# Altium footprint library PcbLib1.PcbLib: 27 footprints (part 2 of 2)
Each footprint in its own frame and in the unit in brackets; x right, y up, seen from the top. Pads: shape width x height; smd on the part's side, far side on the other; paste and mask are expansions set on the pad; w line width, h text height; cw(c..) or ccw(c..) is an arc to the next point about the centre after c.
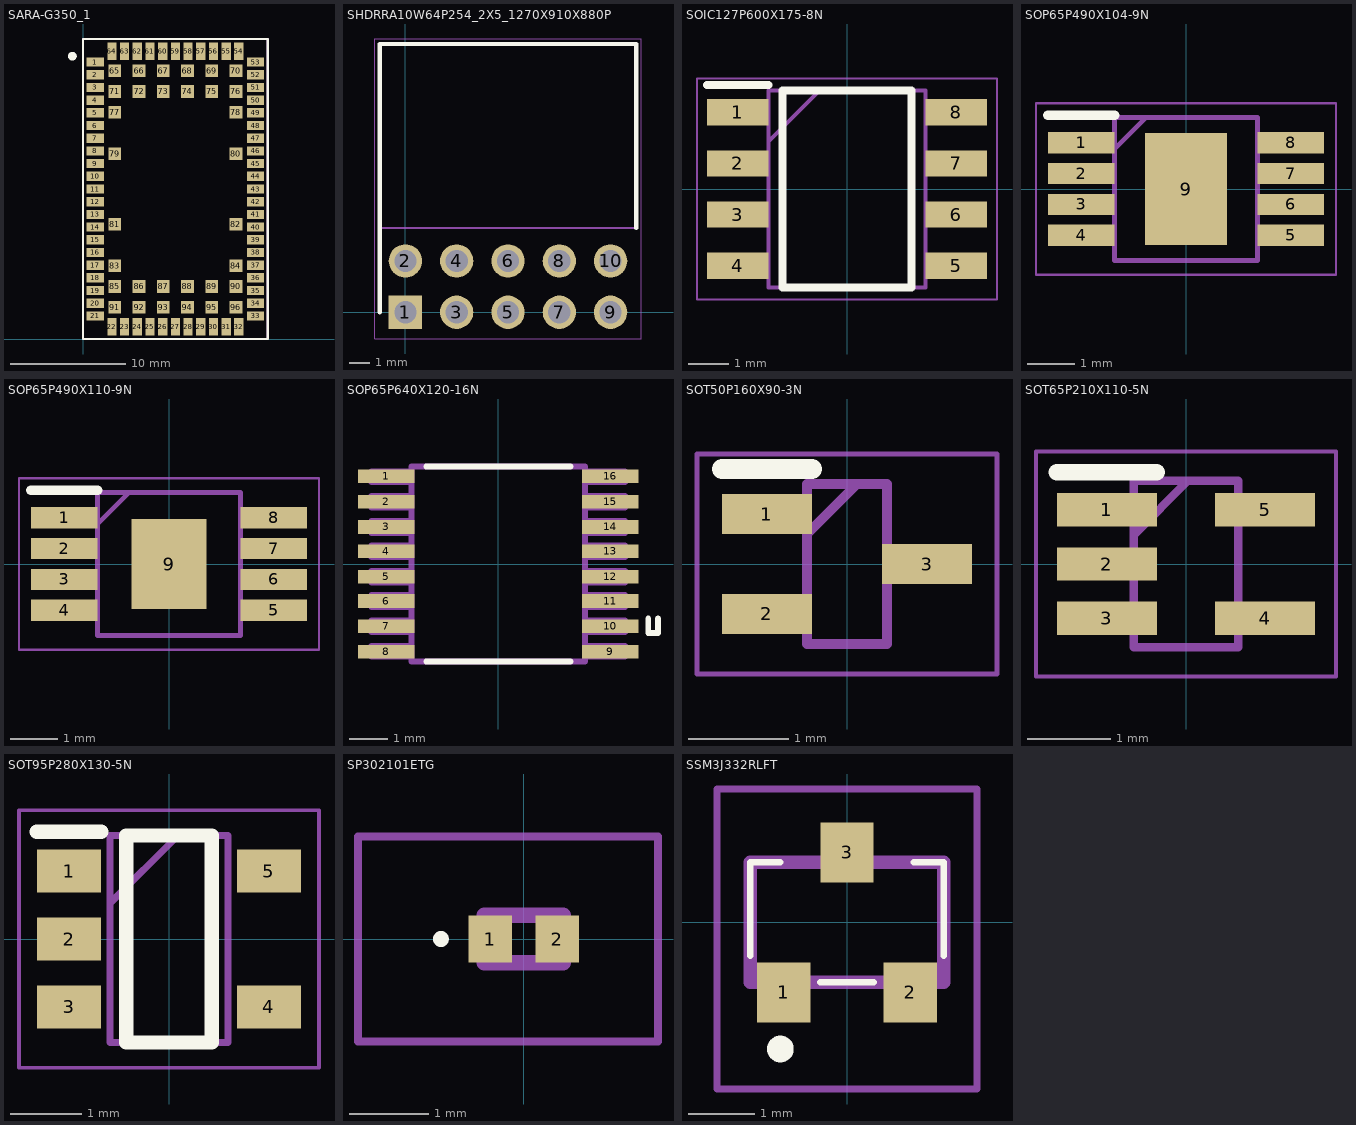
[diagram p1: the footprints below, top view; thin cyan lines are the x and y axes]

## SARA-G350_1 [mm]
pads (96):
  rect 1.5x0.8 smd: 1(1.05,24) 2(1.05,22.9) 3(1.05,21.8) 4(1.05,20.7) 5(1.05,19.6) 6(1.05,18.5) 7(1.05,17.4) 8(1.05,16.3) 9(1.05,15.2) 10(1.05,14.1) 11(1.05,13) 12(1.05,11.9) 13(1.05,10.8) 14(1.05,9.7) 15(1.05,8.6) 16(1.05,7.5) 17(1.05,6.4) 18(1.05,5.3) 19(1.05,4.2) 20(1.05,3.1) 21(1.05,2) 33(14.95,2) 34(14.95,3.1) 35(14.95,4.2) 36(14.95,5.3) 37(14.95,6.4) 38(14.95,7.5) 39(14.95,8.6) 40(14.95,9.7) 41(14.95,10.8) 42(14.95,11.9) 43(14.95,13) 44(14.95,14.1) 45(14.95,15.2) 46(14.95,16.3) 47(14.95,17.4) 48(14.95,18.5) 49(14.95,19.6) 50(14.95,20.7) 51(14.95,21.8) 52(14.95,22.9) 53(14.95,24)
  rect 0.8x1.5 smd: 22(2.5,1.05) 23(3.6,1.05) 24(4.7,1.05) 25(5.8,1.05) 26(6.9,1.05) 27(8,1.05) 28(9.1,1.05) 29(10.2,1.05) 30(11.3,1.05) 31(12.4,1.05) 32(13.5,1.05) 54(13.5,24.95) 55(12.4,24.95) 56(11.3,24.95) 57(10.2,24.95) 58(9.1,24.95) 59(8,24.95) 60(6.9,24.95) 61(5.8,24.95) 62(4.7,24.95) 63(3.6,24.95) 64(2.5,24.95)
  rect 1.1x1.1 smd: 65(2.75,23.25) 66(4.85,23.25) 67(6.95,23.25) 68(9.05,23.25) 69(11.15,23.25) 70(13.25,23.25) 71(2.75,21.45) 72(4.85,21.45) 73(6.95,21.45) 74(9.05,21.45) 75(11.15,21.45) 76(13.25,21.45) 77(2.75,19.65) 78(13.25,19.65) 79(2.75,16.05) 80(13.25,16.05) 81(2.75,9.95) 82(13.25,9.95) 83(2.75,6.35) 84(13.25,6.35) 85(2.75,4.55) 86(4.85,4.55) 87(6.95,4.55) 88(9.05,4.55) 89(11.15,4.55) 90(13.25,4.55) 91(2.75,2.75) 92(4.85,2.75) 93(6.95,2.75) 94(9.05,2.75) 95(11.15,2.75) 96(13.25,2.75)
Top Overlay:
  circle w0.4: c-0.925,24.514 r0.178
  lines w0.2: 0,0 0,26 16,26 16,0 0,0
Mechanical 13:
  lines w0.2: 0,0 16,0 16,26 0,26 0,0

## SHDRRA10W64P254_2X5_1270X910X880P [mm]
pads (10):
  rect 1.65x1.65 hole 1.1: 1(0,0)
  round 1.65 hole 1.1: 2(0,2.54) 3(2.54,0) 4(2.54,2.54) 5(5.08,0) 6(5.08,2.54) 7(7.62,0) 8(7.62,2.54) 9(10.16,0) 10(10.16,2.54)
Top Overlay:
  lines w0.2: -1.27,0 -1.27,13.28 11.43,13.28 11.43,4.18
Mechanical 13:
  lines w0.1: -1.27,4.18 11.43,4.18 11.43,13.28 -1.27,13.28 -1.27,4.18
Mechanical 15:
  lines w0.05: -1.52,-1.325 -1.52,13.53 11.68,13.53 11.68,-1.325 -1.52,-1.325
3D body "SBH11-PBPC-D05-RA-BK.stp": height 8.8, standoff -3, extent -1.27,-0.32 11.43,13.28

## SOIC127P600X175-8N [mm]
pads (8):
  rect 1.525x0.65 smd: 1(-2.712,1.905) 2(-2.712,0.635) 3(-2.712,-0.635) 4(-2.712,-1.905) 5(2.712,-1.905) 6(2.712,-0.635) 7(2.712,0.635) 8(2.712,1.905)
Top Overlay:
  lines w0.2: -3.475,2.58 -1.95,2.58 ; -1.6,-2.45 -1.6,2.45 1.6,2.45 1.6,-2.45 -1.6,-2.45
Mechanical 13:
  lines w0.1: -1.95,1.18 -0.68,2.45 ; -1.95,-2.45 -1.95,2.45 1.95,2.45 1.95,-2.45 -1.95,-2.45
Mechanical 15:
  lines w0.05: -3.725,-2.75 -3.725,2.75 3.725,2.75 3.725,-2.75 -3.725,-2.75
3D body "MAX3488AEGSA+.stp": height 1.75, standoff 0, extent -3,-2.45 3,2.45

## SOP65P490X104-9N [mm]
pads (9):
  rect 1.4x0.45 smd: 1(-2.2,0.975) 2(-2.2,0.325) 3(-2.2,-0.325) 4(-2.2,-0.975) 5(2.2,-0.975) 6(2.2,-0.325) 7(2.2,0.325) 8(2.2,0.975)
  rect 1.73x2.36 smd: 9(0,0)
Top Overlay:
  lines w0.2: -2.9,1.55 -1.5,1.55
Mechanical 13:
  lines w0.1: -1.5,0.85 -0.85,1.5 ; -1.5,-1.5 1.5,-1.5 1.5,1.5 -1.5,1.5 -1.5,-1.5
Mechanical 15:
  lines w0.05: -3.15,-1.8 3.15,-1.8 3.15,1.8 -3.15,1.8 -3.15,-1.8
3D body "MIC5357-SGYMME.stp": height 1.04, standoff 0, extent -2.45,-1.5 2.45,1.5

## SOP65P490X110-9N [mm]
pads (9):
  rect 1.4x0.45 smd: 1(-2.2,0.975) 2(-2.2,0.325) 3(-2.2,-0.325) 4(-2.2,-0.975) 5(2.2,-0.975) 6(2.2,-0.325) 7(2.2,0.325) 8(2.2,0.975)
  rect 1.57x1.89 smd: 9(0,0)
Top Overlay:
  lines w0.2: -2.9,1.55 -1.5,1.55
Mechanical 13:
  lines w0.1: -1.5,0.85 -0.85,1.5 ; -1.5,-1.5 -1.5,1.5 1.5,1.5 1.5,-1.5 -1.5,-1.5
Mechanical 15:
  lines w0.05: -3.15,-1.8 -3.15,1.8 3.15,1.8 3.15,-1.8 -3.15,-1.8
3D body "TPS7B8233QDGNRQ1.stp": height 1.1, standoff 0, extent -2.45,-1.5 2.45,1.5

## SOP65P640X120-16N [mil]
pads (16):
  rect 58x14 smd: 1(-115,90) 2(-115,64) 3(-115,38) 4(-115,13) 5(-115,-13) 6(-115,-38) 7(-115,-64) 8(-115,-90) 9(115,-90) 10(115,-64) 11(115,-38) 12(115,-13) 13(115,13) 14(115,38) 15(115,64) 16(115,90)
Top Overlay:
  lines w6: -74,-100 74,-100 ; -74,100 -12,100 12,100 74,100 ; 154,-56 154,-71 164,-71 164,-56
Mechanical 13:
  lines w6: -130,-95 -89,-95 -89,-84 -130,-84 -130,-95 ; -130,-70 -89,-70 -89,-58 -130,-58 -130,-70 ; -130,-44 -89,-44 -89,-32 -130,-32 -130,-44 ; -130,-19 -89,-19 -89,-7 -130,-7 -130,-19 ; -130,7 -89,7 -89,19 -130,19 -130,7 ; -130,32 -89,32 -89,44 -130,44 -130,32 ; -130,58 -89,58 -89,70 -130,70 -130,58 ; -130,84 -89,84 -89,95 -130,95 -130,84 ; -89,-100 -89,100 -12,100 12,100 89,100 89,-100 -89,-100 ; 89,-95 130,-95 130,-84 89,-84 89,-95 ; 89,-70 130,-70 130,-58 89,-58 89,-70 ; 89,-44 130,-44 130,-32 89,-32 89,-44 ; 89,-19 130,-19 130,-7 89,-7 89,-19 ; 89,7 130,7 130,19 89,19 89,7 ; 89,32 130,32 130,44 89,44 89,32 ; 89,58 130,58 130,70 89,70 89,58 ; 89,84 130,84 130,95 89,95 89,84

## SOT50P160X90-3N [mm]
pads (3):
  rect 0.9x0.4 smd: 1(-0.8,0.5) 2(-0.8,-0.5) 3(0.8,0)
Top Overlay:
  lines w0.2: -1.25,0.95 -0.35,0.95
Mechanical 13:
  lines w0.1: -0.4,0.3 0.1,0.8 ; -0.4,-0.8 -0.4,0.8 0.4,0.8 0.4,-0.8 -0.4,-0.8
Mechanical 15:
  lines w0.05: -1.5,-1.1 -1.5,1.1 1.5,1.1 1.5,-1.1 -1.5,-1.1
3D body "RCLAMP0582BQTCT.stp": height 0.9, standoff 0, extent -0.8,-0.8 0.8,0.8

## SOT65P210X110-5N [mm]
pads (5):
  rect 1.2x0.4 smd: 1(-0.95,0.65) 2(-0.95,0) 3(-0.95,-0.65) 4(0.95,-0.65) 5(0.95,0.65)
Top Overlay:
  lines w0.2: -1.55,1.1 -0.35,1.1
Mechanical 13:
  lines w0.1: -0.625,0.35 0.025,1 ; -0.625,-1 -0.625,1 0.625,1 0.625,-1 -0.625,-1
Mechanical 15:
  lines w0.05: -1.8,-1.35 -1.8,1.35 1.8,1.35 1.8,-1.35 -1.8,-1.35
3D body "FXLP34P5X.stp": height 1.1, standoff 0, extent -1.05,-1 1.05,1

## SOT95P280X130-5N [mm]
pads (5):
  rect 0.9x0.6 smd: 1(-1.4,0.95) 2(-1.4,0) 3(-1.4,-0.95) 4(1.4,-0.95) 5(1.4,0.95)
Top Overlay:
  lines w0.2: -1.85,1.5 -0.95,1.5 ; -0.6,-1.45 -0.6,1.45 0.6,1.45 0.6,-1.45 -0.6,-1.45
Mechanical 13:
  lines w0.1: -0.825,0.5 0.125,1.45 ; -0.825,-1.45 -0.825,1.45 0.825,1.45 0.825,-1.45 -0.825,-1.45
Mechanical 15:
  lines w0.05: -2.1,-1.8 -2.1,1.8 2.1,1.8 2.1,-1.8 -2.1,-1.8
3D body "XC6227C501MR-G.stp": height 1.3, standoff 0, extent -1.4,-1.45 1.4,1.45

## SP302101ETG [mm]
pads (2):
  rect 0.55x0.6 smd: 1(-0.425,0) 2(0.425,0)
Top Overlay:
  lines w0.1: -1.1,0 ccw(c-1.05,0) -1,0 ccw(c-1.05,0) -1.1,0
Mechanical 13:
  lines w0.2: -0.5,-0.3 -0.5,0.3 0.5,0.3 0.5,-0.3 -0.5,-0.3
Mechanical 15:
  lines w0.1: -2.1,-1.3 -2.1,1.3 1.7,1.3 1.7,-1.3 -2.1,-1.3
3D body "SP3021-01ETG.stp": height 0.7, standoff 0, extent -0.645,-0.3 0.645,0.3

## SSM3J332RLFT [mm]
pads (3):
  rect 0.8x0.9 smd: 1(-0.95,-1.05) 2(0.95,-1.05) 3(0,1.05)
Top Overlay:
  lines w0.1: -1.45,-0.5 -1.45,0.9 -1,0.9 ; -0.4,-0.9 0.4,-0.9 ; 1,0.9 1.45,0.9 1.45,-0.5
  lines w0.2: -1.1,-1.9 cw(c-1,-1.9) -0.9,-1.9 cw(c-1,-1.9) -1.1,-1.9
Mechanical 13:
  lines w0.2: -1.45,-0.9 1.45,-0.9 1.45,0.9 -1.45,0.9 -1.45,-0.9
Mechanical 15:
  lines w0.1: -1.95,-2.5 1.95,-2.5 1.95,2 -1.95,2 -1.95,-2.5